# Altium schematic symbol library kmilo17pet-NSC_Amplifier.SchLib: 1665 symbols (part 10 of 44)
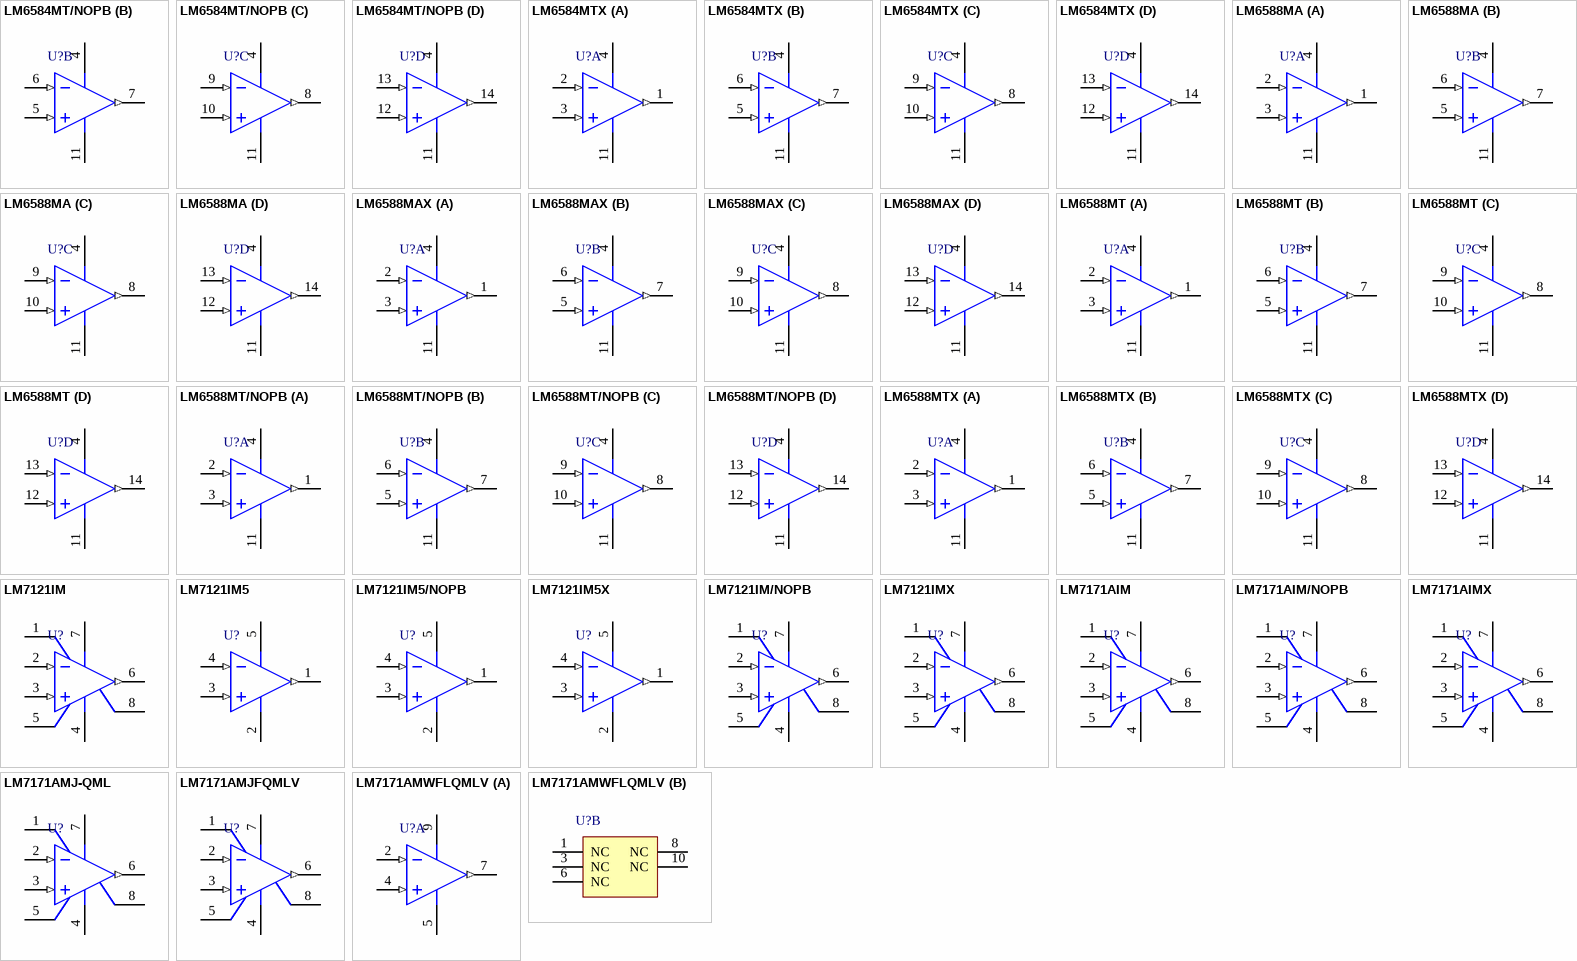
[diagram p93: symbols LM6584MT/NOPB to LM7171AMWFLQMLV]

## LM6588MTX
designator U?
Quad 16 Volt, RRIO High Output Current Operational Amplifier, 14-pin TSSOP; PartNumber: LM6588MTX; Manufacturer: National Semiconductor; PackageTopMarking: NSZXYTT*LM658*8MT; PowerWise: N; CompType: Amplifiers; High-Reliability: Y; DatasheetVersion: Jul-2005; PackageVersion: revD, Jun-2003; PackageReference: MTC14; PackageDescription: Molded TSSOP, JEDEC, 5 x 4.4 x 0.9mm Body, 14 Lead, 0.65mm Pitch; RoHS: N; PinCount: 14; Code_JEDEC: MO-153-AB-1; ComponentLink1Description: Manufacturer URL; ComponentLink1URL: http://www.national.com/; ComponentLink2Description: LM6588 Datasheet; ComponentLink2URL: http://www.national.com/ds/LM/LM6588.pdf; ComponentLink3Description: LM6588 Web Page; ComponentLink3URL: http://www.national.com/pf/LM/LM6588.html; ComponentLink4Description: MTC14 Package Page; ComponentLink4URL: http://www.national.com/packaging/folders/mtc14.html
footprint MTC14_N (TSOP, 14-Leads, Body 5x4.4mm, Pitch 0.65mm, IPC Medium Density)
footprint MTC14_L (TSOP, 14-Leads, Body 5x4.4mm, Pitch 0.65mm, IPC High Density)
footprint MTC14_M (TSOP, 14-Leads, Body 5x4.4mm, Pitch 0.65mm, IPC Low Density)
pins on every part: 4 V+ (power), 11 V- (power)
part A pins: 1 OUTA (out), 2 INA- (in), 3 INA+ (in)
part B pins: 5 INB+ (in), 6 INB- (in), 7 OUTB (out)
part C pins: 8 OUTC (out), 9 INC- (in), 10 INC+ (in)
part D pins: 12 IND+ (in), 13 IND- (in), 14 OUTD (out)

## LM7121IM
designator U?
175 MHz Tiny Low Power Voltage Feedback Amplifier, 8-pin Narrow SOIC; PartNumber: LM7121IM; Manufacturer: National Semiconductor; PackageTopMarking: NSZXTT*LM71*21IM; PowerWise: Y; CompType: Amplifiers; DatasheetVersion: Aug-1999; PackageVersion: revM, May-2009; PackageReference: M08A; PackageDescription: SOIC Narrow, 4.9 x 3.9 x 1.45mm, 8 Lead, 1.27mm Pitch; RoHS: N; PinCount: 8; High-Reliability: Y; Code_JEDEC: MS-012-AA; Code_IPC: SOIC127P600-8; ComponentLink1Description: Manufacturer URL; ComponentLink1URL: http://www.national.com/; ComponentLink2Description: LM7121 Datasheet; ComponentLink2URL: http://www.national.com/ds/LM/LM7121.pdf; ComponentLink3Description: LM7121 Web Page; ComponentLink3URL: http://www.national.com/pf/LM/LM7121.html; ComponentLink4Description: M08A Package Page; ComponentLink4URL: http://www.national.com/packaging/folders/m08a.html
footprint M08A_N (SOIC, 8-Leads, Body 4.9x3.9mm, Pitch 1.27mm, IPC Medium Density)
footprint M08A_L (SOIC, 8-Leads, Body 4.9x3.9mm, Pitch 1.27mm, IPC High Density)
footprint M08A_M (SOIC, 8-Leads, Body 4.9x3.9mm, Pitch 1.27mm, IPC Low Density)
pins: 1 NC, 2 IN- (in), 3 IN+ (in), 4 V- (power), 5 NC, 6 OUT (out), 7 V+ (power), 8 NC

## LM7121IM5
designator U?
175 MHz Tiny Low Power Voltage Feedback Amplifier, 5-pin SOT-23; PartNumber: LM7121IM5; Manufacturer: National Semiconductor; PackageTopMarking: A03A*XTT; PowerWise: Y; CompType: Amplifiers; DatasheetVersion: Aug-1999; PackageVersion: revD, Aug-2008; PackageReference: MF05A; PackageDescription: Molded SOT-23, .115 x .063 x .040 in Body, 5 Lead, .0375 in Pitch; RoHS: N; PinCount: 5; High-Reliability: Y; ComponentLink1Description: Manufacturer URL; ComponentLink1URL: http://www.national.com/; ComponentLink2Description: LM7121 Datasheet; ComponentLink2URL: http://www.national.com/ds/LM/LM7121.pdf; ComponentLink3Description: LM7121 Web Page; ComponentLink3URL: http://www.national.com/pf/LM/LM7121.html; ComponentLink4Description: MF05A Package Page; ComponentLink4URL: http://www.national.com/packaging/folders/mf05a.html
footprint MF05A_N (SOT23, 5-Leads, Body 2.9x1.6mm, Pitch 0.95mm, Lead Span 2.8mm, IPC Medium Density)
footprint MF05A_L (SOT23, 5-Leads, Body 2.9x1.6mm, Pitch 0.95mm, Lead Span 2.8mm, IPC High Density)
footprint MF05A_M (SOT23, 5-Leads, Body 2.9x1.6mm, Pitch 0.95mm, Lead Span 2.8mm, IPC Low Density)
pins: 1 OUT (out), 2 V- (power), 3 IN+ (in), 4 IN- (in), 5 V+ (power)

## LM7121IM5/NOPB
designator U?
175 MHz Tiny Low Power Voltage Feedback Amplifier, 5-pin SOT-23, Pb-Free; PartNumber: LM7121IM5/NOPB; Manufacturer: National Semiconductor; PackageTopMarking: A03A*XTT; PowerWise: Y; CompType: Amplifiers; DatasheetVersion: Aug-1999; PackageVersion: revD, Aug-2008; PackageReference: MF05A; PackageDescription: Molded SOT-23, .115 x .063 x .040 in Body, 5 Lead, .0375 in Pitch; RoHS: Y; PinCount: 5; High-Reliability: Y; ComponentLink1Description: Manufacturer URL; ComponentLink1URL: http://www.national.com/; ComponentLink2Description: LM7121 Datasheet; ComponentLink2URL: http://www.national.com/ds/LM/LM7121.pdf; ComponentLink3Description: LM7121 Web Page; ComponentLink3URL: http://www.national.com/pf/LM/LM7121.html; ComponentLink4Description: MF05A Package Page; ComponentLink4URL: http://www.national.com/packaging/folders/mf05a.html
footprint MF05A_N (SOT23, 5-Leads, Body 2.9x1.6mm, Pitch 0.95mm, Lead Span 2.8mm, IPC Medium Density)
footprint MF05A_L (SOT23, 5-Leads, Body 2.9x1.6mm, Pitch 0.95mm, Lead Span 2.8mm, IPC High Density)
footprint MF05A_M (SOT23, 5-Leads, Body 2.9x1.6mm, Pitch 0.95mm, Lead Span 2.8mm, IPC Low Density)
pins: 1 OUT (out), 2 V- (power), 3 IN+ (in), 4 IN- (in), 5 V+ (power)

## LM7121IM5X
designator U?
175 MHz Tiny Low Power Voltage Feedback Amplifier, 5-pin SOT-23; PartNumber: LM7121IM5X; Manufacturer: National Semiconductor; PackageTopMarking: A03A*XTT; PowerWise: Y; CompType: Amplifiers; DatasheetVersion: Aug-1999; PackageVersion: revD, Aug-2008; PackageReference: MF05A; PackageDescription: Molded SOT-23, .115 x .063 x .040 in Body, 5 Lead, .0375 in Pitch; RoHS: N; PinCount: 5; High-Reliability: Y; ComponentLink1Description: Manufacturer URL; ComponentLink1URL: http://www.national.com/; ComponentLink2Description: LM7121 Datasheet; ComponentLink2URL: http://www.national.com/ds/LM/LM7121.pdf; ComponentLink3Description: LM7121 Web Page; ComponentLink3URL: http://www.national.com/pf/LM/LM7121.html; ComponentLink4Description: MF05A Package Page; ComponentLink4URL: http://www.national.com/packaging/folders/mf05a.html
footprint MF05A_N (SOT23, 5-Leads, Body 2.9x1.6mm, Pitch 0.95mm, Lead Span 2.8mm, IPC Medium Density)
footprint MF05A_L (SOT23, 5-Leads, Body 2.9x1.6mm, Pitch 0.95mm, Lead Span 2.8mm, IPC High Density)
footprint MF05A_M (SOT23, 5-Leads, Body 2.9x1.6mm, Pitch 0.95mm, Lead Span 2.8mm, IPC Low Density)
pins: 1 OUT (out), 2 V- (power), 3 IN+ (in), 4 IN- (in), 5 V+ (power)

## LM7121IM/NOPB
designator U?
175 MHz Tiny Low Power Voltage Feedback Amplifier, 8-pin Narrow SOIC, Pb-Free; PartNumber: LM7121IM/NOPB; Manufacturer: National Semiconductor; PackageTopMarking: NSZXTT*LM71*21IM; PowerWise: Y; CompType: Amplifiers; DatasheetVersion: Aug-1999; PackageVersion: revM, May-2009; PackageReference: M08A; PackageDescription: SOIC Narrow, 4.9 x 3.9 x 1.45mm, 8 Lead, 1.27mm Pitch; RoHS: Y; PinCount: 8; High-Reliability: Y; Code_JEDEC: MS-012-AA; Code_IPC: SOIC127P600-8; ComponentLink1Description: Manufacturer URL; ComponentLink1URL: http://www.national.com/; ComponentLink2Description: LM7121 Datasheet; ComponentLink2URL: http://www.national.com/ds/LM/LM7121.pdf; ComponentLink3Description: LM7121 Web Page; ComponentLink3URL: http://www.national.com/pf/LM/LM7121.html; ComponentLink4Description: M08A Package Page; ComponentLink4URL: http://www.national.com/packaging/folders/m08a.html
footprint M08A_N (SOIC, 8-Leads, Body 4.9x3.9mm, Pitch 1.27mm, IPC Medium Density)
footprint M08A_L (SOIC, 8-Leads, Body 4.9x3.9mm, Pitch 1.27mm, IPC High Density)
footprint M08A_M (SOIC, 8-Leads, Body 4.9x3.9mm, Pitch 1.27mm, IPC Low Density)
pins: 1 NC, 2 IN- (in), 3 IN+ (in), 4 V- (power), 5 NC, 6 OUT (out), 7 V+ (power), 8 NC

## LM7121IMX
designator U?
175 MHz Tiny Low Power Voltage Feedback Amplifier, 8-pin Narrow SOIC; PartNumber: LM7121IMX; Manufacturer: National Semiconductor; PackageTopMarking: NSZXTT*LM71*21IM; PowerWise: Y; CompType: Amplifiers; DatasheetVersion: Aug-1999; PackageVersion: revM, May-2009; PackageReference: M08A; PackageDescription: SOIC Narrow, 4.9 x 3.9 x 1.45mm, 8 Lead, 1.27mm Pitch; RoHS: N; PinCount: 8; High-Reliability: Y; Code_JEDEC: MS-012-AA; Code_IPC: SOIC127P600-8; ComponentLink1Description: Manufacturer URL; ComponentLink1URL: http://www.national.com/; ComponentLink2Description: LM7121 Datasheet; ComponentLink2URL: http://www.national.com/ds/LM/LM7121.pdf; ComponentLink3Description: LM7121 Web Page; ComponentLink3URL: http://www.national.com/pf/LM/LM7121.html; ComponentLink4Description: M08A Package Page; ComponentLink4URL: http://www.national.com/packaging/folders/m08a.html
footprint M08A_N (SOIC, 8-Leads, Body 4.9x3.9mm, Pitch 1.27mm, IPC Medium Density)
footprint M08A_L (SOIC, 8-Leads, Body 4.9x3.9mm, Pitch 1.27mm, IPC High Density)
footprint M08A_M (SOIC, 8-Leads, Body 4.9x3.9mm, Pitch 1.27mm, IPC Low Density)
pins: 1 NC, 2 IN- (in), 3 IN+ (in), 4 V- (power), 5 NC, 6 OUT (out), 7 V+ (power), 8 NC

## LM7171AIM
designator U?
Very High Speed, High Output Current, Voltage Feedback Amplifier, 8-pin Narrow SOIC; PartNumber: LM7171AIM; Manufacturer: National Semiconductor; PackageTopMarking: NSZXTT*LM71*71AIM; PowerWise: N; CompType: Amplifiers; High-Reliability: Y; DatasheetVersion: May-2006; PackageVersion: revM, May-2009; PackageReference: M08A; PackageDescription: SOIC Narrow, 4.9 x 3.9 x 1.45mm, 8 Lead, 1.27mm Pitch; RoHS: N; PinCount: 8; Code_JEDEC: MS-012-AA; Code_IPC: SOIC127P600-8; ComponentLink1Description: Manufacturer URL; ComponentLink1URL: http://www.national.com/; ComponentLink2Description: LM7171 Datasheet; ComponentLink2URL: http://www.national.com/ds/LM/LM7171.pdf; ComponentLink3Description: LM7171 Web Page; ComponentLink3URL: http://www.national.com/pf/LM/LM7171.html; ComponentLink4Description: M08A Package Page; ComponentLink4URL: http://www.national.com/packaging/folders/m08a.html
footprint M08A_N (SOIC, 8-Leads, Body 4.9x3.9mm, Pitch 1.27mm, IPC Medium Density)
footprint M08A_L (SOIC, 8-Leads, Body 4.9x3.9mm, Pitch 1.27mm, IPC High Density)
footprint M08A_M (SOIC, 8-Leads, Body 4.9x3.9mm, Pitch 1.27mm, IPC Low Density)
pins: 1 NC, 2 IN- (in), 3 IN+ (in), 4 V- (power), 5 NC, 6 OUT (out), 7 V+ (power), 8 NC

## LM7171AIM/NOPB
designator U?
Very High Speed, High Output Current, Voltage Feedback Amplifier, 8-pin Narrow SOIC, Pb-Free; PartNumber: LM7171AIM/NOPB; Manufacturer: National Semiconductor; PackageTopMarking: NSZXTT*LM71*71AIM; PowerWise: N; CompType: Amplifiers; High-Reliability: Y; DatasheetVersion: May-2006; PackageVersion: revM, May-2009; PackageReference: M08A; PackageDescription: SOIC Narrow, 4.9 x 3.9 x 1.45mm, 8 Lead, 1.27mm Pitch; RoHS: Y; PinCount: 8; Code_JEDEC: MS-012-AA; Code_IPC: SOIC127P600-8; ComponentLink1Description: Manufacturer URL; ComponentLink1URL: http://www.national.com/; ComponentLink2Description: LM7171 Datasheet; ComponentLink2URL: http://www.national.com/ds/LM/LM7171.pdf; ComponentLink3Description: LM7171 Web Page; ComponentLink3URL: http://www.national.com/pf/LM/LM7171.html; ComponentLink4Description: M08A Package Page; ComponentLink4URL: http://www.national.com/packaging/folders/m08a.html
footprint M08A_N (SOIC, 8-Leads, Body 4.9x3.9mm, Pitch 1.27mm, IPC Medium Density)
footprint M08A_L (SOIC, 8-Leads, Body 4.9x3.9mm, Pitch 1.27mm, IPC High Density)
footprint M08A_M (SOIC, 8-Leads, Body 4.9x3.9mm, Pitch 1.27mm, IPC Low Density)
pins: 1 NC, 2 IN- (in), 3 IN+ (in), 4 V- (power), 5 NC, 6 OUT (out), 7 V+ (power), 8 NC

## LM7171AIMX
designator U?
Very High Speed, High Output Current, Voltage Feedback Amplifier, 8-pin Narrow SOIC; PartNumber: LM7171AIMX; Manufacturer: National Semiconductor; PackageTopMarking: NSZXTT*LM71*71AIM; PowerWise: N; CompType: Amplifiers; High-Reliability: Y; DatasheetVersion: May-2006; PackageVersion: revM, May-2009; PackageReference: M08A; PackageDescription: SOIC Narrow, 4.9 x 3.9 x 1.45mm, 8 Lead, 1.27mm Pitch; RoHS: N; PinCount: 8; Code_JEDEC: MS-012-AA; Code_IPC: SOIC127P600-8; ComponentLink1Description: Manufacturer URL; ComponentLink1URL: http://www.national.com/; ComponentLink2Description: LM7171 Datasheet; ComponentLink2URL: http://www.national.com/ds/LM/LM7171.pdf; ComponentLink3Description: LM7171 Web Page; ComponentLink3URL: http://www.national.com/pf/LM/LM7171.html; ComponentLink4Description: M08A Package Page; ComponentLink4URL: http://www.national.com/packaging/folders/m08a.html
footprint M08A_N (SOIC, 8-Leads, Body 4.9x3.9mm, Pitch 1.27mm, IPC Medium Density)
footprint M08A_L (SOIC, 8-Leads, Body 4.9x3.9mm, Pitch 1.27mm, IPC High Density)
footprint M08A_M (SOIC, 8-Leads, Body 4.9x3.9mm, Pitch 1.27mm, IPC Low Density)
pins: 1 NC, 2 IN- (in), 3 IN+ (in), 4 V- (power), 5 NC, 6 OUT (out), 7 V+ (power), 8 NC

## LM7171AMJ-QML
designator U?
Very High Speed, High Output Current, Voltage Feedback Amplifier, 8-pin CerDIP; PartNumber: LM7171AMJ-QML; Manufacturer: National Semiconductor; PackageTopMarking: NSZSSXXYYA*LM7171AMJ-*QML Q 5962-*9553601QPA; PowerWise: N; CompType: Amplifiers; High-Reliability: Y; DatasheetVersion: May-2006; PackageVersion: revM, Jul-2002; PackageReference: J08A; PackageDescription: Cerdip, .400 x .310in Body, 8 Lead, .300in Centers, .100in Pitch; RoHS: N; PinCount: 8; ComponentLink1Description: Manufacturer URL; ComponentLink1URL: http://www.national.com/; ComponentLink2Description: LM7171 Datasheet; ComponentLink2URL: http://www.national.com/ds/LM/LM7171QML.pdf; ComponentLink3Description: LM7171 Web Page; ComponentLink3URL: http://www.national.com/pf/LM/LM7171.html; ComponentLink4Description: J08A Package Page; ComponentLink4URL: http://www.national.com/packaging/folders/j08a.html
footprint J08A (DIP, 8-Leads, Row Spacing 7.62mm, Pitch 2.54mm, Body 9.78x6.73mm)
pins: 1 NC, 2 IN- (in), 3 IN+ (in), 4 V- (power), 5 NC, 6 OUT (out), 7 V+ (power), 8 NC

## LM7171AMJFQMLV
designator U?
Very High Speed, High Output Current, Voltage Feedback Amplifier, 8-pin CerDIP; PartNumber: LM7171AMJFQMLV; Manufacturer: National Semiconductor; PackageTopMarking: NSZSSXXYYA*LM7171AMJF*QV Q 5962F*9553601VPA; PowerWise: N; CompType: Amplifiers; High-Reliability: Y; DatasheetVersion: May-2006; PackageVersion: revM, Jul-2002; PackageReference: J08A; PackageDescription: Cerdip, .400 x .310in Body, 8 Lead, .300in Centers, .100in Pitch; RoHS: N; PinCount: 8; ComponentLink1Description: Manufacturer URL; ComponentLink1URL: http://www.national.com/; ComponentLink2Description: LM7171 Datasheet; ComponentLink2URL: http://www.national.com/ds/LM/LM7171QML.pdf; ComponentLink3Description: LM7171 Web Page; ComponentLink3URL: http://www.national.com/pf/LM/LM7171.html; ComponentLink4Description: J08A Package Page; ComponentLink4URL: http://www.national.com/packaging/folders/j08a.html
footprint J08A (DIP, 8-Leads, Row Spacing 7.62mm, Pitch 2.54mm, Body 9.78x6.73mm)
pins: 1 NC, 2 IN- (in), 3 IN+ (in), 4 V- (power), 5 NC, 6 OUT (out), 7 V+ (power), 8 NC

## LM7171AMWFLQMLV
designator U?
Very High Speed, High Output Current, Voltage Feedback Amplifier, 10-pin CerPACK; PartNumber: LM7171AMWFLQMLV; Manufacturer: National Semiconductor; PackageTopMarking: NSZSSXXYYA*5962F*9553602VHA*LM7171AM*WFLQV Q; PowerWise: N; CompType: Amplifiers; High-Reliability: Y; DatasheetVersion: Feb-2009; PackageVersion: revH, Sep-2003; PackageReference: W10A; PackageDescription: Cerpack, .270 x .241 x .067in Body, 10 Lead, .050in Pitch; RoHS: N; PinCount: 10; Code_JEDEC: MS-033-AA; ComponentLink1Description: Manufacturer URL; ComponentLink1URL: http://www.national.com/; ComponentLink2Description: LM7171 Datasheet; ComponentLink2URL: http://www.national.com/ds/LM/LM7171QML.pdf; ComponentLink3Description: LM7171 Web Page; ComponentLink3URL: http://www.national.com/pf/LM/LM7171.html; ComponentLink4Description: W10A Package Page; ComponentLink4URL: http://www.national.com/packaging/folders/w10a.html
footprint W10A (DFP; 10 Leads; Body 6.9 x 6.9 mm (LxW max); Pitch 1.27 mm)
part A pins: 2 IN- (in), 4 IN+ (in), 5 V- (power), 7 OUT (out), 9 V+ (power)
part B pins: 1 NC, 3 NC, 6 NC, 8 NC, 10 NC

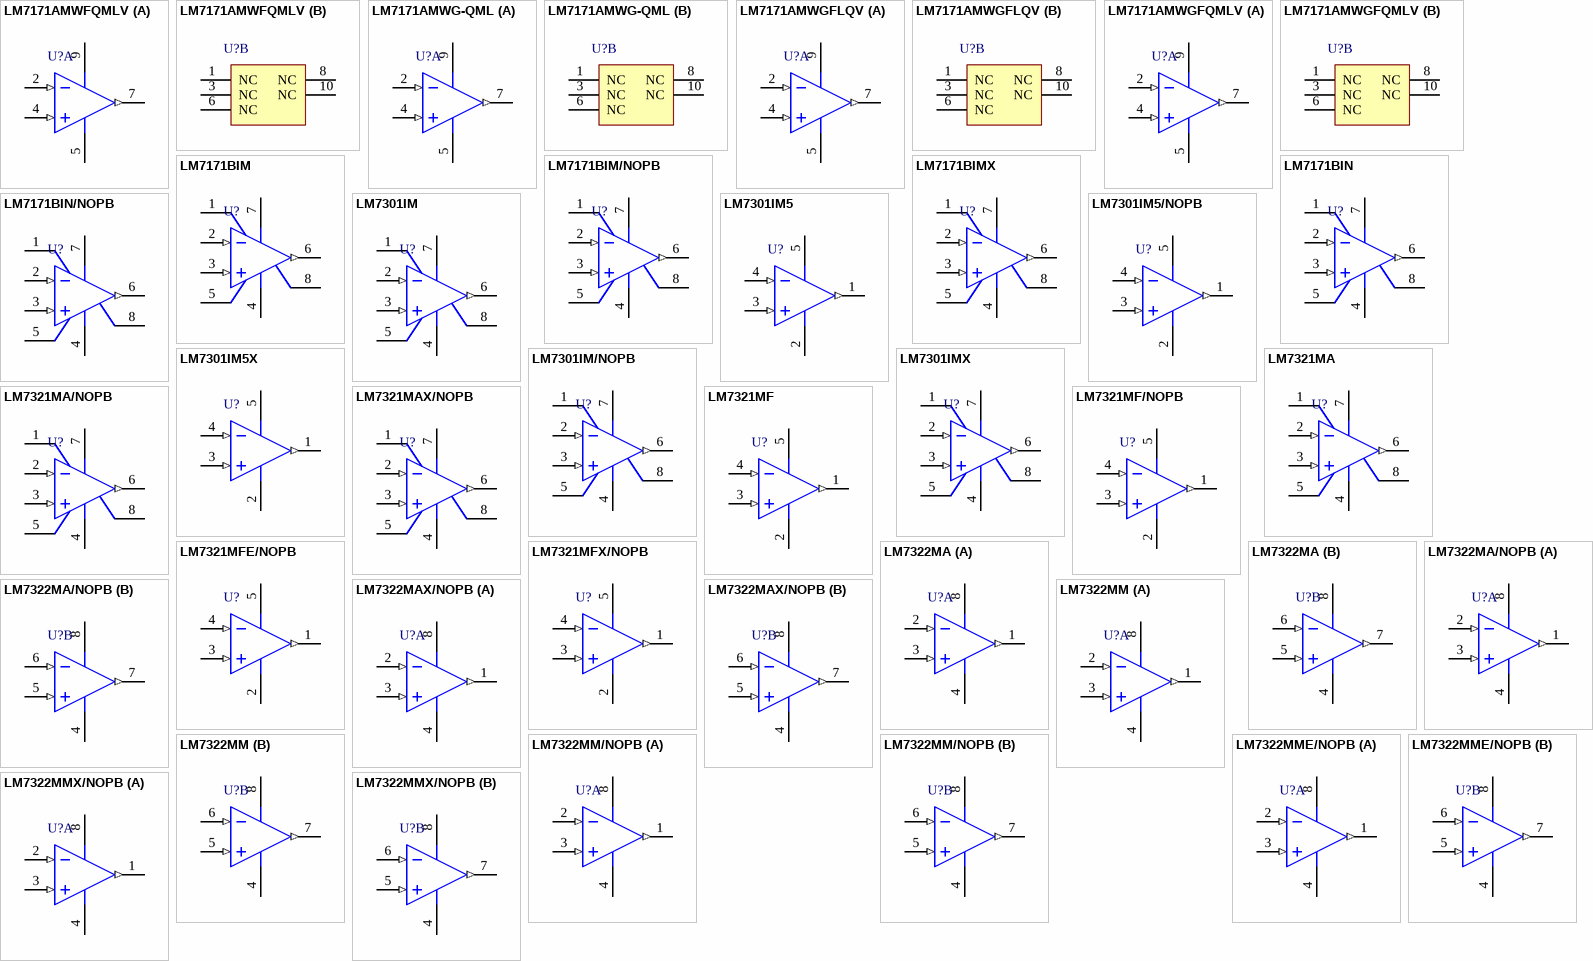
[diagram p23: symbols LM7171AMWFQMLV to LM7322MMX/NOPB]

## LM7171AMWFQMLV
designator U?
Very High Speed, High Output Current, Voltage Feedback Amplifier, 10-pin CerPACK; PartNumber: LM7171AMWFQMLV; Manufacturer: National Semiconductor; PackageTopMarking: NS5962F*9553601V*HALM7171*AMWFQV Q*ZSSXXYYA; PowerWise: N; CompType: Amplifiers; High-Reliability: Y; DatasheetVersion: Feb-2009; PackageVersion: revH, Sep-2003; PackageReference: W10A; PackageDescription: Cerpack, .270 x .241 x .067in Body, 10 Lead, .050in Pitch; RoHS: N; PinCount: 10; Code_JEDEC: MS-033-AA; ComponentLink1Description: Manufacturer URL; ComponentLink1URL: http://www.national.com/; ComponentLink2Description: LM7171 Datasheet; ComponentLink2URL: http://www.national.com/ds/LM/LM7171QML.pdf; ComponentLink3Description: LM7171 Web Page; ComponentLink3URL: http://www.national.com/pf/LM/LM7171.html; ComponentLink4Description: W10A Package Page; ComponentLink4URL: http://www.national.com/packaging/folders/w10a.html
footprint W10A (DFP; 10 Leads; Body 6.9 x 6.9 mm (LxW max); Pitch 1.27 mm)
part A pins: 2 IN- (in), 4 IN+ (in), 5 V- (power), 7 OUT (out), 9 V+ (power)
part B pins: 1 NC, 3 NC, 6 NC, 8 NC, 10 NC

## LM7171AMWG-QML
designator U?
Very High Speed, High Output Current, Voltage Feedback Amplifier, 10-pin CerPACK; PartNumber: LM7171AMWG-QML; Manufacturer: National Semiconductor; PackageTopMarking: NS*ZSSXXYYA*LM7171AM*WG Q 955*3601QXA; PowerWise: N; CompType: Amplifiers; High-Reliability: Y; DatasheetVersion: Feb-2009; PackageVersion: revF, Oct-2008; PackageReference: WG10A; PackageDescription: Cerpack, .270 x .241 x .070in, 10 Lead, .050in Pitch, Gull Wing; RoHS: N; PinCount: 10; ComponentLink1Description: Manufacturer URL; ComponentLink1URL: http://www.national.com/; ComponentLink2Description: LM7171 Datasheet; ComponentLink2URL: http://www.national.com/ds/LM/LM7171QML.pdf; ComponentLink3Description: LM7171 Web Page; ComponentLink3URL: http://www.national.com/pf/LM/LM7171.html; ComponentLink4Description: WG10A Package Page; ComponentLink4URL: http://www.national.com/packaging/folders/wg10a.html
footprint WG10A_N (CERPACK, 10-Leads, Body 6.9x6.3mm, Pitch 1.27mm, IPC Medium Density)
footprint WG10A_L (CERPACK, 10-Leads, Body 6.9x6.3mm, Pitch 1.27mm, IPC High Density)
footprint WG10A_M (CERPACK, 10-Leads, Body 6.9x6.3mm, Pitch 1.27mm, IPC Low Density)
part A pins: 2 IN- (in), 4 IN+ (in), 5 V- (power), 7 OUT (out), 9 V+ (power)
part B pins: 1 NC, 3 NC, 6 NC, 8 NC, 10 NC

## LM7171AMWGFLQV
designator U?
Very High Speed, High Output Current, Voltage Feedback Amplifier, 10-pin CerPACK; PartNumber: LM7171AMWGFLQV; Manufacturer: National Semiconductor; PackageTopMarking: NS5962F9*553602VXA*LM7171AM*WGFLQV Q*ZSSXXYYA; PowerWise: N; CompType: Amplifiers; High-Reliability: Y; DatasheetVersion: Feb-2009; PackageVersion: revF, Oct-2008; PackageReference: WG10A; PackageDescription: Cerpack, .270 x .241 x .070in, 10 Lead, .050in Pitch, Gull Wing; RoHS: N; PinCount: 10; ComponentLink1Description: Manufacturer URL; ComponentLink1URL: http://www.national.com/; ComponentLink2Description: LM7171 Datasheet; ComponentLink2URL: http://www.national.com/ds/LM/LM7171QML.pdf; ComponentLink3Description: LM7171 Web Page; ComponentLink3URL: http://www.national.com/pf/LM/LM7171.html; ComponentLink4Description: WG10A Package Page; ComponentLink4URL: http://www.national.com/packaging/folders/wg10a.html
footprint WG10A_N (CERPACK, 10-Leads, Body 6.9x6.3mm, Pitch 1.27mm, IPC Medium Density)
footprint WG10A_L (CERPACK, 10-Leads, Body 6.9x6.3mm, Pitch 1.27mm, IPC High Density)
footprint WG10A_M (CERPACK, 10-Leads, Body 6.9x6.3mm, Pitch 1.27mm, IPC Low Density)
part A pins: 2 IN- (in), 4 IN+ (in), 5 V- (power), 7 OUT (out), 9 V+ (power)
part B pins: 1 NC, 3 NC, 6 NC, 8 NC, 10 NC

## LM7171AMWGFQMLV
designator U?
Very High Speed, High Output Current, Voltage Feedback Amplifier, 10-pin CerPACK; PartNumber: LM7171AMWGFQMLV; Manufacturer: National Semiconductor; PackageTopMarking: NS5962F9*553601VXA*LM7171AM*WGFQV Q*ZSSXXYYA; PowerWise: N; CompType: Amplifiers; High-Reliability: Y; DatasheetVersion: Feb-2009; PackageVersion: revF, Oct-2008; PackageReference: WG10A; PackageDescription: Cerpack, .270 x .241 x .070in, 10 Lead, .050in Pitch, Gull Wing; RoHS: N; PinCount: 10; ComponentLink1Description: Manufacturer URL; ComponentLink1URL: http://www.national.com/; ComponentLink2Description: LM7171 Datasheet; ComponentLink2URL: http://www.national.com/ds/LM/LM7171QML.pdf; ComponentLink3Description: LM7171 Web Page; ComponentLink3URL: http://www.national.com/pf/LM/LM7171.html; ComponentLink4Description: WG10A Package Page; ComponentLink4URL: http://www.national.com/packaging/folders/wg10a.html
footprint WG10A_N (CERPACK, 10-Leads, Body 6.9x6.3mm, Pitch 1.27mm, IPC Medium Density)
footprint WG10A_L (CERPACK, 10-Leads, Body 6.9x6.3mm, Pitch 1.27mm, IPC High Density)
footprint WG10A_M (CERPACK, 10-Leads, Body 6.9x6.3mm, Pitch 1.27mm, IPC Low Density)
part A pins: 2 IN- (in), 4 IN+ (in), 5 V- (power), 7 OUT (out), 9 V+ (power)
part B pins: 1 NC, 3 NC, 6 NC, 8 NC, 10 NC

## LM7171BIM
designator U?
Very High Speed, High Output Current, Voltage Feedback Amplifier, 8-pin Narrow SOIC; PartNumber: LM7171BIM; Manufacturer: National Semiconductor; PackageTopMarking: NSZXTT*LM71*71BIM; PowerWise: N; CompType: Amplifiers; High-Reliability: Y; DatasheetVersion: May-2006; PackageVersion: revM, May-2009; PackageReference: M08A; PackageDescription: SOIC Narrow, 4.9 x 3.9 x 1.45mm, 8 Lead, 1.27mm Pitch; RoHS: N; PinCount: 8; Code_JEDEC: MS-012-AA; Code_IPC: SOIC127P600-8; ComponentLink1Description: Manufacturer URL; ComponentLink1URL: http://www.national.com/; ComponentLink2Description: LM7171 Datasheet; ComponentLink2URL: http://www.national.com/ds/LM/LM7171.pdf; ComponentLink3Description: LM7171 Web Page; ComponentLink3URL: http://www.national.com/pf/LM/LM7171.html; ComponentLink4Description: M08A Package Page; ComponentLink4URL: http://www.national.com/packaging/folders/m08a.html
footprint M08A_N (SOIC, 8-Leads, Body 4.9x3.9mm, Pitch 1.27mm, IPC Medium Density)
footprint M08A_L (SOIC, 8-Leads, Body 4.9x3.9mm, Pitch 1.27mm, IPC High Density)
footprint M08A_M (SOIC, 8-Leads, Body 4.9x3.9mm, Pitch 1.27mm, IPC Low Density)
pins: 1 NC, 2 IN- (in), 3 IN+ (in), 4 V- (power), 5 NC, 6 OUT (out), 7 V+ (power), 8 NC

## LM7171BIM/NOPB
designator U?
Very High Speed, High Output Current, Voltage Feedback Amplifier, 8-pin Narrow SOIC, Pb-Free; PartNumber: LM7171BIM/NOPB; Manufacturer: National Semiconductor; PackageTopMarking: NSZXTT*LM71*71BIM; PowerWise: N; CompType: Amplifiers; High-Reliability: Y; DatasheetVersion: May-2006; PackageVersion: revM, May-2009; PackageReference: M08A; PackageDescription: SOIC Narrow, 4.9 x 3.9 x 1.45mm, 8 Lead, 1.27mm Pitch; RoHS: Y; PinCount: 8; Code_JEDEC: MS-012-AA; Code_IPC: SOIC127P600-8; ComponentLink1Description: Manufacturer URL; ComponentLink1URL: http://www.national.com/; ComponentLink2Description: LM7171 Datasheet; ComponentLink2URL: http://www.national.com/ds/LM/LM7171.pdf; ComponentLink3Description: LM7171 Web Page; ComponentLink3URL: http://www.national.com/pf/LM/LM7171.html; ComponentLink4Description: M08A Package Page; ComponentLink4URL: http://www.national.com/packaging/folders/m08a.html
footprint M08A_N (SOIC, 8-Leads, Body 4.9x3.9mm, Pitch 1.27mm, IPC Medium Density)
footprint M08A_L (SOIC, 8-Leads, Body 4.9x3.9mm, Pitch 1.27mm, IPC High Density)
footprint M08A_M (SOIC, 8-Leads, Body 4.9x3.9mm, Pitch 1.27mm, IPC Low Density)
pins: 1 NC, 2 IN- (in), 3 IN+ (in), 4 V- (power), 5 NC, 6 OUT (out), 7 V+ (power), 8 NC

## LM7171BIMX
designator U?
Very High Speed, High Output Current, Voltage Feedback Amplifier, 8-pin Narrow SOIC; PartNumber: LM7171BIMX; Manufacturer: National Semiconductor; PackageTopMarking: NSZXTT*LM71*71BIM; PowerWise: N; CompType: Amplifiers; High-Reliability: Y; DatasheetVersion: May-2006; PackageVersion: revM, May-2009; PackageReference: M08A; PackageDescription: SOIC Narrow, 4.9 x 3.9 x 1.45mm, 8 Lead, 1.27mm Pitch; RoHS: N; PinCount: 8; Code_JEDEC: MS-012-AA; Code_IPC: SOIC127P600-8; ComponentLink1Description: Manufacturer URL; ComponentLink1URL: http://www.national.com/; ComponentLink2Description: LM7171 Datasheet; ComponentLink2URL: http://www.national.com/ds/LM/LM7171.pdf; ComponentLink3Description: LM7171 Web Page; ComponentLink3URL: http://www.national.com/pf/LM/LM7171.html; ComponentLink4Description: M08A Package Page; ComponentLink4URL: http://www.national.com/packaging/folders/m08a.html
footprint M08A_N (SOIC, 8-Leads, Body 4.9x3.9mm, Pitch 1.27mm, IPC Medium Density)
footprint M08A_L (SOIC, 8-Leads, Body 4.9x3.9mm, Pitch 1.27mm, IPC High Density)
footprint M08A_M (SOIC, 8-Leads, Body 4.9x3.9mm, Pitch 1.27mm, IPC Low Density)
pins: 1 NC, 2 IN- (in), 3 IN+ (in), 4 V- (power), 5 NC, 6 OUT (out), 7 V+ (power), 8 NC

## LM7171BIN
designator U?
Very High Speed, High Output Current, Voltage Feedback Amplifier, 8-pin MDIP; PartNumber: LM7171BIN; Manufacturer: National Semiconductor; PackageTopMarking: NSUZXYTTE#*LM7171*BIN; PowerWise: N; CompType: Amplifiers; High-Reliability: Y; DatasheetVersion: May-2006; PackageVersion: revG, May-2006; PackageReference: N08E; PackageDescription: MDIP, .365 x .250 x .130in, 8 Lead, .100in Pitch; RoHS: N; PinCount: 8; Code_JEDEC: MS-001-BA; ComponentLink1Description: Manufacturer URL; ComponentLink1URL: http://www.national.com/; ComponentLink2Description: LM7171 Datasheet; ComponentLink2URL: http://www.national.com/ds/LM/LM7171.pdf; ComponentLink3Description: LM7171 Web Page; ComponentLink3URL: http://www.national.com/pf/LM/LM7171.html; ComponentLink4Description: N08E Package Page; ComponentLink4URL: http://www.national.com/packaging/folders/n08e.html
footprint N08E (DIP, 8-Leads, Row Spacing 7.62mm, Pitch 2.54mm, Body 9.91x6.35mm)
pins: 1 NC, 2 IN- (in), 3 IN+ (in), 4 V- (power), 5 NC, 6 OUT (out), 7 V+ (power), 8 NC

## LM7171BIN/NOPB
designator U?
Very High Speed, High Output Current, Voltage Feedback Amplifier, 8-pin MDIP, Pb-Free; PartNumber: LM7171BIN/NOPB; Manufacturer: National Semiconductor; PackageTopMarking: NSUZXYTTE#*LM7171*BIN; PowerWise: N; CompType: Amplifiers; High-Reliability: Y; DatasheetVersion: May-2006; PackageVersion: revG, May-2006; PackageReference: N08E; PackageDescription: MDIP, .365 x .250 x .130in, 8 Lead, .100in Pitch; RoHS: Y; PinCount: 8; Code_JEDEC: MS-001-BA; ComponentLink1Description: Manufacturer URL; ComponentLink1URL: http://www.national.com/; ComponentLink2Description: LM7171 Datasheet; ComponentLink2URL: http://www.national.com/ds/LM/LM7171.pdf; ComponentLink3Description: LM7171 Web Page; ComponentLink3URL: http://www.national.com/pf/LM/LM7171.html; ComponentLink4Description: N08E Package Page; ComponentLink4URL: http://www.national.com/packaging/folders/n08e.html
footprint N08E (DIP, 8-Leads, Row Spacing 7.62mm, Pitch 2.54mm, Body 9.91x6.35mm)
pins: 1 NC, 2 IN- (in), 3 IN+ (in), 4 V- (power), 5 NC, 6 OUT (out), 7 V+ (power), 8 NC

## LM7301IM
designator U?
Low Power, 4 MHz GBW, Rail-to-Rail Input-Output Operational Amplifier, 8-pin Narrow SOIC; PartNumber: LM7301IM; Manufacturer: National Semiconductor; PackageTopMarking: NSZXTT*LM73*01IM; PowerWise: N; CompType: Amplifiers; High-Reliability: Y; DatasheetVersion: May-2009; PackageVersion: revM, May-2009; PackageReference: M08A; PackageDescription: SOIC Narrow, 4.9 x 3.9 x 1.45mm, 8 Lead, 1.27mm Pitch; RoHS: N; PinCount: 8; Code_JEDEC: MS-012-AA; Code_IPC: SOIC127P600-8; ComponentLink1Description: Manufacturer URL; ComponentLink1URL: http://www.national.com/; ComponentLink2Description: LM7301 Datasheet; ComponentLink2URL: http://www.national.com/ds/LM/LM7301.pdf; ComponentLink3Description: LM7301 Web Page; ComponentLink3URL: http://www.national.com/pf/LM/LM7301.html; ComponentLink4Description: M08A Package Page; ComponentLink4URL: http://www.national.com/packaging/folders/m08a.html
footprint M08A_N (SOIC, 8-Leads, Body 4.9x3.9mm, Pitch 1.27mm, IPC Medium Density)
footprint M08A_L (SOIC, 8-Leads, Body 4.9x3.9mm, Pitch 1.27mm, IPC High Density)
footprint M08A_M (SOIC, 8-Leads, Body 4.9x3.9mm, Pitch 1.27mm, IPC Low Density)
pins: 1 NC, 2 IN- (in), 3 IN+ (in), 4 V- (power), 5 NC, 6 OUT (out), 7 V+ (power), 8 NC

## LM7301IM5
designator U?
Low Power, 4 MHz GBW, Rail-to-Rail Input-Output Operational Amplifier, 5-pin SOT-23; PartNumber: LM7301IM5; Manufacturer: National Semiconductor; PackageTopMarking: A04A*XTT; PowerWise: N; CompType: Amplifiers; High-Reliability: Y; DatasheetVersion: May-2009; PackageVersion: revD, Aug-2008; PackageReference: MF05A; PackageDescription: Molded SOT-23, .115 x .063 x .040 in Body, 5 Lead, .0375 in Pitch; RoHS: N; PinCount: 5; ComponentLink1Description: Manufacturer URL; ComponentLink1URL: http://www.national.com/; ComponentLink2Description: LM7301 Datasheet; ComponentLink2URL: http://www.national.com/ds/LM/LM7301.pdf; ComponentLink3Description: LM7301 Web Page; ComponentLink3URL: http://www.national.com/pf/LM/LM7301.html; ComponentLink4Description: MF05A Package Page; ComponentLink4URL: http://www.national.com/packaging/folders/mf05a.html
footprint MF05A_N (SOT23, 5-Leads, Body 2.9x1.6mm, Pitch 0.95mm, Lead Span 2.8mm, IPC Medium Density)
footprint MF05A_L (SOT23, 5-Leads, Body 2.9x1.6mm, Pitch 0.95mm, Lead Span 2.8mm, IPC High Density)
footprint MF05A_M (SOT23, 5-Leads, Body 2.9x1.6mm, Pitch 0.95mm, Lead Span 2.8mm, IPC Low Density)
pins: 1 OUT (out), 2 V- (power), 3 IN+ (in), 4 IN- (in), 5 V+ (power)

## LM7301IM5/NOPB
designator U?
Low Power, 4 MHz GBW, Rail-to-Rail Input-Output Operational Amplifier in TinyPak Package, 5-pin SOT-23, Pb-Free; PartNumber: LM7301IM5/NOPB; Manufacturer: National Semiconductor; PackageTopMarking: A04A*XTT; PowerWise: N; CompType: Amplifiers; High-Reliability: Y; DatasheetVersion: May-2009; PackageVersion: revD, Aug-2008; PackageReference: MF05A; PackageDescription: Molded SOT-23, .115 x .063 x .040 in Body, 5 Lead, .0375 in Pitch; RoHS: Y; PinCount: 5; ComponentLink1Description: Manufacturer URL; ComponentLink1URL: http://www.national.com/; ComponentLink2Description: LM7301 Datasheet; ComponentLink2URL: http://www.national.com/ds/LM/LM7301.pdf; ComponentLink3Description: LM7301 Web Page; ComponentLink3URL: http://www.national.com/pf/LM/LM7301.html; ComponentLink4Description: MF05A Package Page; ComponentLink4URL: http://www.national.com/packaging/folders/mf05a.html
footprint MF05A_N (SOT23, 5-Leads, Body 2.9x1.6mm, Pitch 0.95mm, Lead Span 2.8mm, IPC Medium Density)
footprint MF05A_L (SOT23, 5-Leads, Body 2.9x1.6mm, Pitch 0.95mm, Lead Span 2.8mm, IPC High Density)
footprint MF05A_M (SOT23, 5-Leads, Body 2.9x1.6mm, Pitch 0.95mm, Lead Span 2.8mm, IPC Low Density)
pins: 1 OUT (out), 2 V- (power), 3 IN+ (in), 4 IN- (in), 5 V+ (power)

## LM7301IM5X
designator U?
Low Power, 4 MHz GBW, Rail-to-Rail Input-Output Operational Amplifier in TinyPak Package, 5-pin SOT-23; PartNumber: LM7301IM5X; Manufacturer: National Semiconductor; PackageTopMarking: A04A*XTT; PowerWise: N; CompType: Amplifiers; High-Reliability: Y; DatasheetVersion: May-2009; PackageVersion: revD, Aug-2008; PackageReference: MF05A; PackageDescription: Molded SOT-23, .115 x .063 x .040 in Body, 5 Lead, .0375 in Pitch; RoHS: N; PinCount: 5; ComponentLink1Description: Manufacturer URL; ComponentLink1URL: http://www.national.com/; ComponentLink2Description: LM7301 Datasheet; ComponentLink2URL: http://www.national.com/ds/LM/LM7301.pdf; ComponentLink3Description: LM7301 Web Page; ComponentLink3URL: http://www.national.com/pf/LM/LM7301.html; ComponentLink4Description: MF05A Package Page; ComponentLink4URL: http://www.national.com/packaging/folders/mf05a.html
footprint MF05A_N (SOT23, 5-Leads, Body 2.9x1.6mm, Pitch 0.95mm, Lead Span 2.8mm, IPC Medium Density)
footprint MF05A_L (SOT23, 5-Leads, Body 2.9x1.6mm, Pitch 0.95mm, Lead Span 2.8mm, IPC High Density)
footprint MF05A_M (SOT23, 5-Leads, Body 2.9x1.6mm, Pitch 0.95mm, Lead Span 2.8mm, IPC Low Density)
pins: 1 OUT (out), 2 V- (power), 3 IN+ (in), 4 IN- (in), 5 V+ (power)

## LM7301IM/NOPB
designator U?
Low Power, 4 MHz GBW, Rail-to-Rail Input-Output Operational Amplifier in TinyPak Package, 8-pin Narrow SOIC, Pb-Free; PartNumber: LM7301IM/NOPB; Manufacturer: National Semiconductor; PackageTopMarking: NSZXTT*LM73*01IM; PowerWise: N; CompType: Amplifiers; High-Reliability: Y; DatasheetVersion: May-2009; PackageVersion: revM, May-2009; PackageReference: M08A; PackageDescription: SOIC Narrow, 4.9 x 3.9 x 1.45mm, 8 Lead, 1.27mm Pitch; RoHS: Y; PinCount: 8; Code_JEDEC: MS-012-AA; Code_IPC: SOIC127P600-8; ComponentLink1Description: Manufacturer URL; ComponentLink1URL: http://www.national.com/; ComponentLink2Description: LM7301 Datasheet; ComponentLink2URL: http://www.national.com/ds/LM/LM7301.pdf; ComponentLink3Description: LM7301 Web Page; ComponentLink3URL: http://www.national.com/pf/LM/LM7301.html; ComponentLink4Description: M08A Package Page; ComponentLink4URL: http://www.national.com/packaging/folders/m08a.html
footprint M08A_N (SOIC, 8-Leads, Body 4.9x3.9mm, Pitch 1.27mm, IPC Medium Density)
footprint M08A_L (SOIC, 8-Leads, Body 4.9x3.9mm, Pitch 1.27mm, IPC High Density)
footprint M08A_M (SOIC, 8-Leads, Body 4.9x3.9mm, Pitch 1.27mm, IPC Low Density)
pins: 1 NC, 2 IN- (in), 3 IN+ (in), 4 V- (power), 5 NC, 6 OUT (out), 7 V+ (power), 8 NC

## LM7301IMX
designator U?
Low Power, 4 MHz GBW, Rail-to-Rail Input-Output Operational Amplifier in TinyPak Package, 8-pin Narrow SOIC; PartNumber: LM7301IMX; Manufacturer: National Semiconductor; PackageTopMarking: NSZXTT*LM73*01IM; PowerWise: N; CompType: Amplifiers; High-Reliability: Y; DatasheetVersion: May-2009; PackageVersion: revM, May-2009; PackageReference: M08A; PackageDescription: SOIC Narrow, 4.9 x 3.9 x 1.45mm, 8 Lead, 1.27mm Pitch; RoHS: N; PinCount: 8; Code_JEDEC: MS-012-AA; Code_IPC: SOIC127P600-8; ComponentLink1Description: Manufacturer URL; ComponentLink1URL: http://www.national.com/; ComponentLink2Description: LM7301 Datasheet; ComponentLink2URL: http://www.national.com/ds/LM/LM7301.pdf; ComponentLink3Description: LM7301 Web Page; ComponentLink3URL: http://www.national.com/pf/LM/LM7301.html; ComponentLink4Description: M08A Package Page; ComponentLink4URL: http://www.national.com/packaging/folders/m08a.html
footprint M08A_N (SOIC, 8-Leads, Body 4.9x3.9mm, Pitch 1.27mm, IPC Medium Density)
footprint M08A_L (SOIC, 8-Leads, Body 4.9x3.9mm, Pitch 1.27mm, IPC High Density)
footprint M08A_M (SOIC, 8-Leads, Body 4.9x3.9mm, Pitch 1.27mm, IPC Low Density)
pins: 1 NC, 2 IN- (in), 3 IN+ (in), 4 V- (power), 5 NC, 6 OUT (out), 7 V+ (power), 8 NC

## LM7321MA
designator U?
Rail-to-Rail Input/Output, ±15V, High Output Current and Unlimited Capacitive Load Operational Amplifier, 8-pin Narrow SOIC; PartNumber: LM7321MA; Manufacturer: National Semiconductor; PackageTopMarking: NSZXTT*LM732*1MA; PowerWise: Y; CompType: Amplifiers; DatasheetVersion: Sep-2008; PackageVersion: revM, May-2009; PackageReference: M08A; PackageDescription: SOIC Narrow, 4.9 x 3.9 x 1.45mm, 8 Lead, 1.27mm Pitch; RoHS: Y; PinCount: 8; High-Reliability: Y; Code_JEDEC: MS-012-AA; Code_IPC: SOIC127P600-8; ComponentLink1Description: Manufacturer URL; ComponentLink1URL: http://www.national.com/; ComponentLink2Description: LM7321 Datasheet; ComponentLink2URL: http://www.national.com/ds/LM/LM7321.pdf; ComponentLink3Description: LM7321 Web Page; ComponentLink3URL: http://www.national.com/pf/LM/LM7321.html; ComponentLink4Description: M08A Package Page; ComponentLink4URL: http://www.national.com/packaging/folders/m08a.html
footprint M08A_N (SOIC, 8-Leads, Body 4.9x3.9mm, Pitch 1.27mm, IPC Medium Density)
footprint M08A_L (SOIC, 8-Leads, Body 4.9x3.9mm, Pitch 1.27mm, IPC High Density)
footprint M08A_M (SOIC, 8-Leads, Body 4.9x3.9mm, Pitch 1.27mm, IPC Low Density)
pins: 1 NC, 2 IN- (in), 3 IN+ (in), 4 V- (power), 5 NC, 6 OUT (out), 7 V+ (power), 8 NC

## LM7321MA/NOPB
designator U?
Single Rail-to-Rail Input/Output, ±15V, High Output Current and Unlimited Capacitive Load Operational Amplifier, 8-pin Narrow SOIC, Pb-Free; PartNumber: LM7321MA/NOPB; Manufacturer: National Semiconductor; PackageTopMarking: NSZXTT*LM732*1MA; PowerWise: Y; CompType: Amplifiers; DatasheetVersion: Sep-2008; PackageVersion: revM, May-2009; PackageReference: M08A; PackageDescription: SOIC Narrow, 4.9 x 3.9 x 1.45mm, 8 Lead, 1.27mm Pitch; RoHS: Y; PinCount: 8; High-Reliability: Y; Code_JEDEC: MS-012-AA; Code_IPC: SOIC127P600-8; ComponentLink1Description: Manufacturer URL; ComponentLink1URL: http://www.national.com/; ComponentLink2Description: LM7321 Datasheet; ComponentLink2URL: http://www.national.com/ds/LM/LM7321.pdf; ComponentLink3Description: LM7321 Web Page; ComponentLink3URL: http://www.national.com/pf/LM/LM7321.html; ComponentLink4Description: M08A Package Page; ComponentLink4URL: http://www.national.com/packaging/folders/m08a.html
footprint M08A_N (SOIC, 8-Leads, Body 4.9x3.9mm, Pitch 1.27mm, IPC Medium Density)
footprint M08A_L (SOIC, 8-Leads, Body 4.9x3.9mm, Pitch 1.27mm, IPC High Density)
footprint M08A_M (SOIC, 8-Leads, Body 4.9x3.9mm, Pitch 1.27mm, IPC Low Density)
pins: 1 NC, 2 IN- (in), 3 IN+ (in), 4 V- (power), 5 NC, 6 OUT (out), 7 V+ (power), 8 NC

## LM7321MAX/NOPB
designator U?
Single Rail-to-Rail Input/Output, ±15V, High Output Current and Unlimited Capacitive Load Operational Amplifier, 8-pin Narrow SOIC, Pb-Free; PartNumber: LM7321MAX/NOPB; Manufacturer: National Semiconductor; PackageTopMarking: NSZXTT*LM732*1MA; PowerWise: Y; CompType: Amplifiers; DatasheetVersion: Sep-2008; PackageVersion: revM, May-2009; PackageReference: M08A; PackageDescription: SOIC Narrow, 4.9 x 3.9 x 1.45mm, 8 Lead, 1.27mm Pitch; RoHS: Y; PinCount: 8; High-Reliability: Y; Code_JEDEC: MS-012-AA; Code_IPC: SOIC127P600-8; ComponentLink1Description: Manufacturer URL; ComponentLink1URL: http://www.national.com/; ComponentLink2Description: LM7321 Datasheet; ComponentLink2URL: http://www.national.com/ds/LM/LM7321.pdf; ComponentLink3Description: LM7321 Web Page; ComponentLink3URL: http://www.national.com/pf/LM/LM7321.html; ComponentLink4Description: M08A Package Page; ComponentLink4URL: http://www.national.com/packaging/folders/m08a.html
footprint M08A_N (SOIC, 8-Leads, Body 4.9x3.9mm, Pitch 1.27mm, IPC Medium Density)
footprint M08A_L (SOIC, 8-Leads, Body 4.9x3.9mm, Pitch 1.27mm, IPC High Density)
footprint M08A_M (SOIC, 8-Leads, Body 4.9x3.9mm, Pitch 1.27mm, IPC Low Density)
pins: 1 NC, 2 IN- (in), 3 IN+ (in), 4 V- (power), 5 NC, 6 OUT (out), 7 V+ (power), 8 NC

## LM7321MF
designator U?
Rail-to-Rail Input/Output, ±15V, High Output Current and Unlimited Capacitive Load Operational Amplifier, 5-pin SOT-23; PartNumber: LM7321MF; Manufacturer: National Semiconductor; PackageTopMarking: AU4A*XTT; PowerWise: Y; CompType: Amplifiers; DatasheetVersion: Sep-2008; PackageVersion: revD, Aug-2008; PackageReference: MF05A; PackageDescription: Molded SOT-23, .115 x .063 x .040 in Body, 5 Lead, .0375 in Pitch; RoHS: Y; PinCount: 5; High-Reliability: Y; ComponentLink1Description: Manufacturer URL; ComponentLink1URL: http://www.national.com/; ComponentLink2Description: LM7321 Datasheet; ComponentLink2URL: http://www.national.com/ds/LM/LM7321.pdf; ComponentLink3Description: LM7321 Web Page; ComponentLink3URL: http://www.national.com/pf/LM/LM7321.html; ComponentLink4Description: MF05A Package Page; ComponentLink4URL: http://www.national.com/packaging/folders/mf05a.html
footprint MF05A_N (SOT23, 5-Leads, Body 2.9x1.6mm, Pitch 0.95mm, Lead Span 2.8mm, IPC Medium Density)
footprint MF05A_L (SOT23, 5-Leads, Body 2.9x1.6mm, Pitch 0.95mm, Lead Span 2.8mm, IPC High Density)
footprint MF05A_M (SOT23, 5-Leads, Body 2.9x1.6mm, Pitch 0.95mm, Lead Span 2.8mm, IPC Low Density)
pins: 1 OUT (out), 2 V- (power), 3 IN+ (in), 4 IN- (in), 5 V+ (power)

## LM7321MF/NOPB
designator U?
Single Rail-to-Rail Input/Output, ±15V, High Output Current and Unlimited Capacitive Load Operational Amplifier, 5-pin SOT-23, Pb-Free; PartNumber: LM7321MF/NOPB; Manufacturer: National Semiconductor; PackageTopMarking: AU4A*XTT; PowerWise: Y; CompType: Amplifiers; DatasheetVersion: Sep-2008; PackageVersion: revD, Aug-2008; PackageReference: MF05A; PackageDescription: Molded SOT-23, .115 x .063 x .040 in Body, 5 Lead, .0375 in Pitch; RoHS: Y; PinCount: 5; High-Reliability: Y; ComponentLink1Description: Manufacturer URL; ComponentLink1URL: http://www.national.com/; ComponentLink2Description: LM7321 Datasheet; ComponentLink2URL: http://www.national.com/ds/LM/LM7321.pdf; ComponentLink3Description: LM7321 Web Page; ComponentLink3URL: http://www.national.com/pf/LM/LM7321.html; ComponentLink4Description: MF05A Package Page; ComponentLink4URL: http://www.national.com/packaging/folders/mf05a.html
footprint MF05A_N (SOT23, 5-Leads, Body 2.9x1.6mm, Pitch 0.95mm, Lead Span 2.8mm, IPC Medium Density)
footprint MF05A_L (SOT23, 5-Leads, Body 2.9x1.6mm, Pitch 0.95mm, Lead Span 2.8mm, IPC High Density)
footprint MF05A_M (SOT23, 5-Leads, Body 2.9x1.6mm, Pitch 0.95mm, Lead Span 2.8mm, IPC Low Density)
pins: 1 OUT (out), 2 V- (power), 3 IN+ (in), 4 IN- (in), 5 V+ (power)

## LM7321MFE/NOPB
designator U?
Single Rail-to-Rail Input/Output, ±15V, High Output Current and Unlimited Capacitive Load Operational Amplifier, 5-pin SOT-23, Pb-Free; PartNumber: LM7321MFE/NOPB; Manufacturer: National Semiconductor; PackageTopMarking: AU4A*XTT; PowerWise: Y; CompType: Amplifiers; DatasheetVersion: Sep-2008; PackageVersion: revD, Aug-2008; PackageReference: MF05A; PackageDescription: Molded SOT-23, .115 x .063 x .040 in Body, 5 Lead, .0375 in Pitch; RoHS: Y; PinCount: 5; High-Reliability: Y; ComponentLink1Description: Manufacturer URL; ComponentLink1URL: http://www.national.com/; ComponentLink2Description: LM7321 Datasheet; ComponentLink2URL: http://www.national.com/ds/LM/LM7321.pdf; ComponentLink3Description: LM7321 Web Page; ComponentLink3URL: http://www.national.com/pf/LM/LM7321.html; ComponentLink4Description: MF05A Package Page; ComponentLink4URL: http://www.national.com/packaging/folders/mf05a.html
footprint MF05A_N (SOT23, 5-Leads, Body 2.9x1.6mm, Pitch 0.95mm, Lead Span 2.8mm, IPC Medium Density)
footprint MF05A_L (SOT23, 5-Leads, Body 2.9x1.6mm, Pitch 0.95mm, Lead Span 2.8mm, IPC High Density)
footprint MF05A_M (SOT23, 5-Leads, Body 2.9x1.6mm, Pitch 0.95mm, Lead Span 2.8mm, IPC Low Density)
pins: 1 OUT (out), 2 V- (power), 3 IN+ (in), 4 IN- (in), 5 V+ (power)

## LM7321MFX/NOPB
designator U?
Single Rail-to-Rail Input/Output, ±15V, High Output Current and Unlimited Capacitive Load Operational Amplifier, 5-pin SOT-23, Pb-Free; PartNumber: LM7321MFX/NOPB; Manufacturer: National Semiconductor; PackageTopMarking: AU4A*XTT; PowerWise: Y; CompType: Amplifiers; DatasheetVersion: Sep-2008; PackageVersion: revD, Aug-2008; PackageReference: MF05A; PackageDescription: Molded SOT-23, .115 x .063 x .040 in Body, 5 Lead, .0375 in Pitch; RoHS: Y; PinCount: 5; High-Reliability: Y; ComponentLink1Description: Manufacturer URL; ComponentLink1URL: http://www.national.com/; ComponentLink2Description: LM7321 Datasheet; ComponentLink2URL: http://www.national.com/ds/LM/LM7321.pdf; ComponentLink3Description: LM7321 Web Page; ComponentLink3URL: http://www.national.com/pf/LM/LM7321.html; ComponentLink4Description: MF05A Package Page; ComponentLink4URL: http://www.national.com/packaging/folders/mf05a.html
footprint MF05A_N (SOT23, 5-Leads, Body 2.9x1.6mm, Pitch 0.95mm, Lead Span 2.8mm, IPC Medium Density)
footprint MF05A_L (SOT23, 5-Leads, Body 2.9x1.6mm, Pitch 0.95mm, Lead Span 2.8mm, IPC High Density)
footprint MF05A_M (SOT23, 5-Leads, Body 2.9x1.6mm, Pitch 0.95mm, Lead Span 2.8mm, IPC Low Density)
pins: 1 OUT (out), 2 V- (power), 3 IN+ (in), 4 IN- (in), 5 V+ (power)

## LM7322MA
designator U?
Rail-to-Rail Input/Output, ±15V, High Output Current and Unlimited Capacitive Load Operational Amplifier, 8-pin Narrow SOIC; PartNumber: LM7322MA; Manufacturer: National Semiconductor; PackageTopMarking: NSZXTT*LM732*2MA; PowerWise: Y; CompType: Amplifiers; DatasheetVersion: Sep-2008; PackageVersion: revM, May-2009; PackageReference: M08A; PackageDescription: SOIC Narrow, 4.9 x 3.9 x 1.45mm, 8 Lead, 1.27mm Pitch; RoHS: N; PinCount: 8; High-Reliability: Y; Code_JEDEC: MS-012-AA; Code_IPC: SOIC127P600-8; ComponentLink1Description: Manufacturer URL; ComponentLink1URL: http://www.national.com/; ComponentLink2Description: LM7322 Datasheet; ComponentLink2URL: http://www.national.com/ds/LM/LM7322.pdf; ComponentLink3Description: LM7322 Web Page; ComponentLink3URL: http://www.national.com/pf/LM/LM7322.html; ComponentLink4Description: M08A Package Page; ComponentLink4URL: http://www.national.com/packaging/folders/m08a.html
footprint M08A_N (SOIC, 8-Leads, Body 4.9x3.9mm, Pitch 1.27mm, IPC Medium Density)
footprint M08A_L (SOIC, 8-Leads, Body 4.9x3.9mm, Pitch 1.27mm, IPC High Density)
footprint M08A_M (SOIC, 8-Leads, Body 4.9x3.9mm, Pitch 1.27mm, IPC Low Density)
pins on every part: 4 V- (power), 8 V+ (power)
part A pins: 1 OUTA (out), 2 INA- (in), 3 INA+ (in)
part B pins: 5 INB+ (in), 6 INB- (in), 7 OUTB (out)

## LM7322MA/NOPB
designator U?
Dual Rail-to-Rail Input/Output, ±15V, High Output Current and Unlimited Capacitive Load Operational Amplifier, 8-pin Narrow SOIC, Pb-Free; PartNumber: LM7322MA/NOPB; Manufacturer: National Semiconductor; PackageTopMarking: NSZXTT*LM732*2MA; PowerWise: Y; CompType: Amplifiers; DatasheetVersion: Sep-2008; PackageVersion: revM, May-2009; PackageReference: M08A; PackageDescription: SOIC Narrow, 4.9 x 3.9 x 1.45mm, 8 Lead, 1.27mm Pitch; RoHS: Y; PinCount: 8; High-Reliability: Y; Code_JEDEC: MS-012-AA; Code_IPC: SOIC127P600-8; ComponentLink1Description: Manufacturer URL; ComponentLink1URL: http://www.national.com/; ComponentLink2Description: LM7322 Datasheet; ComponentLink2URL: http://www.national.com/ds/LM/LM7322.pdf; ComponentLink3Description: LM7322 Web Page; ComponentLink3URL: http://www.national.com/pf/LM/LM7322.html; ComponentLink4Description: M08A Package Page; ComponentLink4URL: http://www.national.com/packaging/folders/m08a.html
footprint M08A_N (SOIC, 8-Leads, Body 4.9x3.9mm, Pitch 1.27mm, IPC Medium Density)
footprint M08A_L (SOIC, 8-Leads, Body 4.9x3.9mm, Pitch 1.27mm, IPC High Density)
footprint M08A_M (SOIC, 8-Leads, Body 4.9x3.9mm, Pitch 1.27mm, IPC Low Density)
pins on every part: 4 V- (power), 8 V+ (power)
part A pins: 1 OUTA (out), 2 INA- (in), 3 INA+ (in)
part B pins: 5 INB+ (in), 6 INB- (in), 7 OUTB (out)

## LM7322MAX/NOPB
designator U?
Dual Rail-to-Rail Input/Output, ±15V, High Output Current and Unlimited Capacitive Load Operational Amplifier, 8-pin Narrow SOIC, Pb-Free; PartNumber: LM7322MAX/NOPB; Manufacturer: National Semiconductor; PackageTopMarking: NSZXTT*LM732*2MA; PowerWise: Y; CompType: Amplifiers; DatasheetVersion: Sep-2008; PackageVersion: revM, May-2009; PackageReference: M08A; PackageDescription: SOIC Narrow, 4.9 x 3.9 x 1.45mm, 8 Lead, 1.27mm Pitch; RoHS: Y; PinCount: 8; High-Reliability: Y; Code_JEDEC: MS-012-AA; Code_IPC: SOIC127P600-8; ComponentLink1Description: Manufacturer URL; ComponentLink1URL: http://www.national.com/; ComponentLink2Description: LM7322 Datasheet; ComponentLink2URL: http://www.national.com/ds/LM/LM7322.pdf; ComponentLink3Description: LM7322 Web Page; ComponentLink3URL: http://www.national.com/pf/LM/LM7322.html; ComponentLink4Description: M08A Package Page; ComponentLink4URL: http://www.national.com/packaging/folders/m08a.html
footprint M08A_N (SOIC, 8-Leads, Body 4.9x3.9mm, Pitch 1.27mm, IPC Medium Density)
footprint M08A_L (SOIC, 8-Leads, Body 4.9x3.9mm, Pitch 1.27mm, IPC High Density)
footprint M08A_M (SOIC, 8-Leads, Body 4.9x3.9mm, Pitch 1.27mm, IPC Low Density)
pins on every part: 4 V- (power), 8 V+ (power)
part A pins: 1 OUTA (out), 2 INA- (in), 3 INA+ (in)
part B pins: 5 INB+ (in), 6 INB- (in), 7 OUTB (out)

## LM7322MM
designator U?
Rail-to-Rail Input/Output, ±15V, High Output Current and Unlimited Capacitive Load Operational Amplifier, 8-pin Mini SOIC; PartNumber: LM7322MM; Manufacturer: National Semiconductor; PackageTopMarking: ZXTT*AZ4A; PowerWise: Y; CompType: Amplifiers; DatasheetVersion: Sep-2008; PackageVersion: revF, Apr-2008; PackageReference: MUA08A; PackageDescription: MINI SOIC, .118 x .118 x .034in, 8 Lead, .0256in Pitch; RoHS: Y; PinCount: 8; High-Reliability: Y; Code_JEDEC: MO-187-AA; ComponentLink1Description: Manufacturer URL; ComponentLink1URL: http://www.national.com/; ComponentLink2Description: LM7322 Datasheet; ComponentLink2URL: http://www.national.com/ds/LM/LM7322.pdf; ComponentLink3Description: LM7322 Web Page; ComponentLink3URL: http://www.national.com/pf/LM/LM7322.html; ComponentLink4Description: MUA08A Package Page; ComponentLink4URL: http://www.national.com/packaging/folders/mua08a.html
footprint MUA08A_N (TSOP, 8-Leads, Body 3x3mm, Pitch 0.65mm, IPC Medium Density)
footprint MUA08A_L (TSOP, 8-Leads, Body 3x3mm, Pitch 0.65mm, IPC High Density)
footprint MUA08A_M (TSOP, 8-Leads, Body 3x3mm, Pitch 0.65mm, IPC Low Density)
pins on every part: 4 V- (power), 8 V+ (power)
part A pins: 1 OUTA (out), 2 INA- (in), 3 INA+ (in)
part B pins: 5 INB+ (in), 6 INB- (in), 7 OUTB (out)